# EAGLE library part MAX30102 (library max30102)
MAX30102
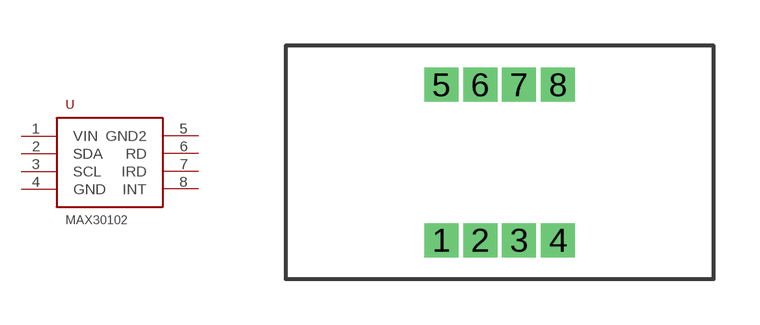
[diagram p0: symbol with the pads of MAX30102_FP; footprint MAX30102_FP]

Designator prefix -

## MAX30102  [MAX30102_FP]
1  VIN
2  SDA
3  SCL
4  GND
5  GND2
6  RD
7  IRD
8  INT

## Footprint MAX30102_FP (pad centres in mm)
drill 0.6 square: 1 -15.24,-5.08; 2 -13.97,-5.08; 3 -12.7,-5.08; 4 -11.43,-5.08; 5 -15.24,0; 6 -13.97,0; 7 -12.7,0; 8 -11.43,0